# Altium schematic symbol library BIB SCH GERAL.SchLib: 587 symbols (part 2 of 4)
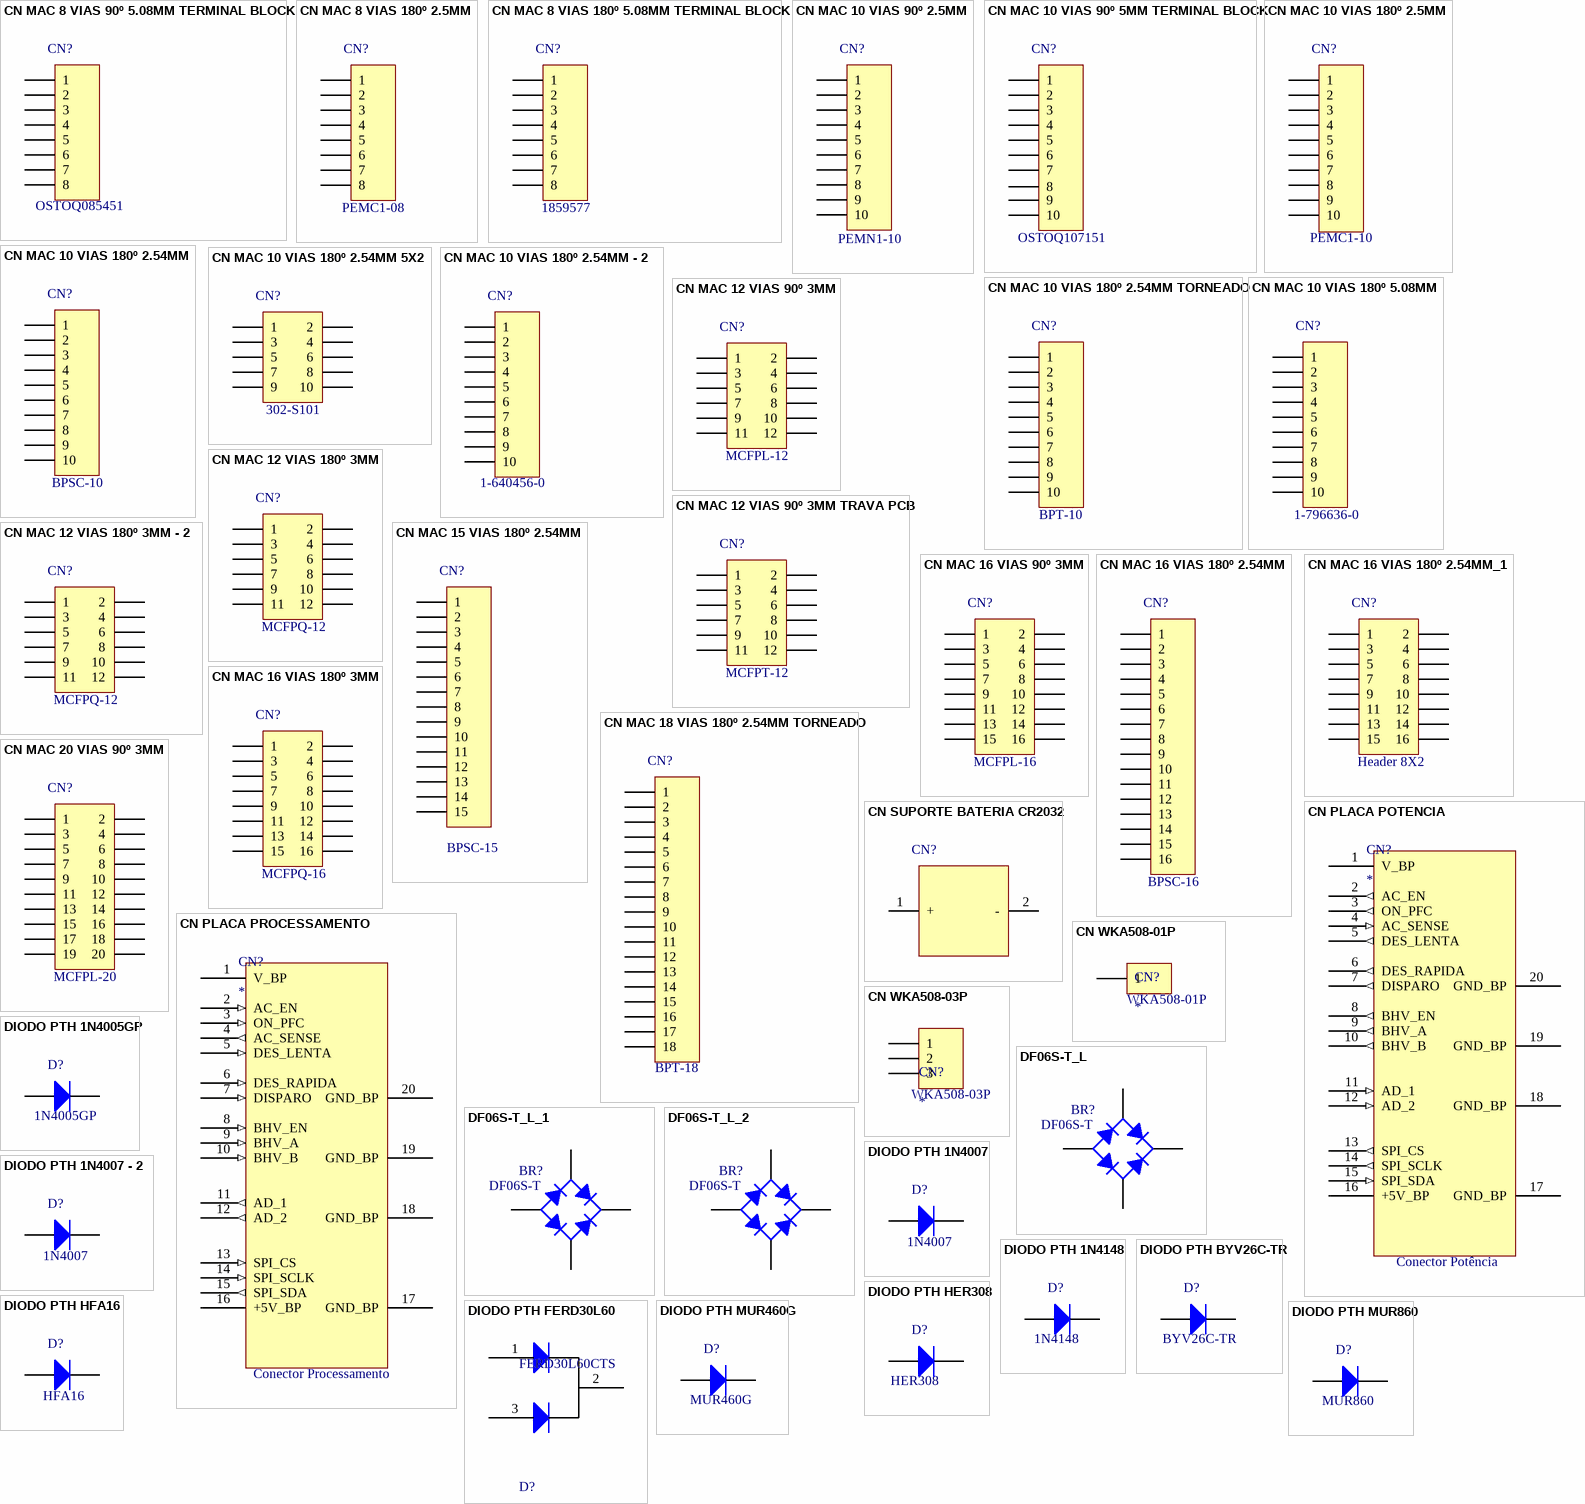
[diagram p16: symbols CN MAC 8 VIAS 90º 5.08MM TERMINAL BLOCK to DIODO PTH MUR860]

## CN MAC 10 VIAS 180º 2.5MM
designator CN?  Manufacturer Part Number: PEMC1-10  (hidden comment: CN MAC 10 VIAS 180º 2.5MM)
Manufacturer: METALTEX; COD. CRISTOFOLI: EMP.00391; List: Conector placa-cabo 2,50mm  180° 10P/PEMC1-10/METALTEX
pins: 1, 2, 3, 4, 5, 6, 7, 8, 9, 10

## CN MAC 10 VIAS 180º 2.54MM
designator CN?  Manufacturer Part Number: BPSC-10  (hidden comment: CN MAC 10 VIAS 180º 2.54MM)
Manufacturer: METALTEX; COD. CRISTOFOLI: EMP.00257; List: Barra de pinos Macho 180° / BPSC-10 / metaltex
pins: 1, 2, 3, 4, 5, 6, 7, 8, 9, 10

## CN MAC 10 VIAS 180º 2.54MM 5X2
designator CN?  Manufacturer Part Number: 302-S101  (hidden comment: CN MAC 10 VIAS 180º 2.54MM 5X2)
Manufacturer: On Shore Technology Inc; COD. CRISTOFOLI: EMP.00342; List: CONN HEADER VERT 10POS GOLD/302-S101/On Shore Technology Inc
pins: 1, 2, 3, 4, 5, 6, 7, 8, 9, 10

## CN MAC 10 VIAS 180º 2.54MM - 2
designator CN?  Manufacturer Part Number: 1-640456-0  (hidden comment: CN MAC 10 VIAS 180º 2.54MM - 2)
Manufacturer: TE Connectivity; COD. CRISTOFOLI: EMP.00334; List: CONN HEADER VERT 10POS .100 TIN/1-640456-0/TE Connectivity
footprint 1-640456-0 (Footprint not found)
pins: 1, 2, 3, 4, 5, 6, 7, 8, 9, 10

## CN MAC 10 VIAS 180º 2.54MM TORNEADO
designator CN?  Manufacturer Part Number: BPT-10  (hidden comment: CN MAC 10 VIAS 180º 2.54MM TORNEADO)
Manufacturer: METALTEX; COD. CRISTOFOLI: EMP.00188; List: Barra de pinos torneados Macho / BPT-10 / metaltex
pins: 1, 2, 3, 4, 5, 6, 7, 8, 9, 10

## CN MAC 10 VIAS 180º 5.08MM
designator CN?  Manufacturer Part Number: 1-796636-0  (hidden comment: CN MAC 10 VIAS 180º 5.08MM)
Manufacturer: TE Connectivity; COD. CRISTOFOLI: EMP.00339; List: TERM BLOCK HDR 10POS VERT 5.08MM/1-796636-0/TE Connectivity
pins: 1, 2, 3, 4, 5, 6, 7, 8, 9, 10

## CN MAC 12 VIAS 90º 3MM
designator CN?  Manufacturer Part Number: MCFPL-12  (hidden comment: CN MAC 12 VIAS 90º 3MM)
Manufacturer: METALTEX; COD. CRISTOFOLI: EMP.00184; List: Conector modular subminiatura 12P 90°/MCFPL-12/Metaltex
pins: 1, 2, 3, 4, 5, 6, 7, 8, 9, 10, 11, 12

## CN MAC 12 VIAS 90º 3MM TRAVA PCB
designator CN?  Manufacturer Part Number: MCFPT-12  (hidden comment: CN MAC 12 VIAS 90º 3MM TRAVA PCB)
Manufacturer: METALTEX; COD. CRISTOFOLI: EMP.00383; List: Conector PCB CABO 90° 12P/MCFPT-12/Metaltex
pins: 1, 2, 3, 4, 5, 6, 7, 8, 9, 10, 11, 12

## CN MAC 12 VIAS 180º 3MM
designator CN?  Manufacturer Part Number: MCFPQ-12  (hidden comment: CN MAC 12 VIAS 180º 3MM)
Manufacturer: METALTEX; COD. CRISTOFOLI: EMP.00261; List: Conector modular subminiatura 12P 180°/MCFPQ-12/Metaltex
pins: 1, 2, 3, 4, 5, 6, 7, 8, 9, 10, 11, 12

## CN MAC 12 VIAS 180º 3MM - 2
designator CN?  Manufacturer Part Number: MCFPQ-12  (hidden comment: CN MAC 12 VIAS 180º 3MM - 2)
Manufacturer: METALTEX; COD. CRISTOFOLI: EMP.00335; List: Conector PCB CABO 180° 12P/MCFPQ-12/Metaltex
pins: 1, 2, 3, 4, 5, 6, 7, 8, 9, 10, 11, 12

## CN MAC 15 VIAS 180º 2.54MM
designator CN?  Manufacturer Part Number: BPSC-15  (hidden comment: CN MAC 15 VIAS 180º 2.54MM)
Manufacturer: METALTEX; COD. CRISTOFOLI: EMP.00000; List: Barra de pinos Macho 180° / BPSC-15 / metaltex
pins: 1, 2, 3, 4, 5, 6, 7, 8, 9, 10, 11, 12, 13, 14, 15

## CN MAC 16 VIAS 90º 3MM
designator CN?  Manufacturer Part Number: MCFPL-16  (hidden comment: CN MAC 16 VIAS 90º 3MM)
Manufacturer: METALTEX; COD. CRISTOFOLI: EMP.00140; List: Conector modular subminiatura 3mm, 16 vias - Montagem em PCI 90º/MCFPL-16/Metaltex
pins: 1, 2, 3, 4, 5, 6, 7, 8, 9, 10, 11, 12, 13, 14, 15, 16

## CN MAC 16 VIAS 180º 2.54MM
designator CN?  Manufacturer Part Number: BPSC-16  (hidden comment: CN MAC 16 VIAS 180º 2.54MM)
Manufacturer: METALTEX; COD. CRISTOFOLI: EMP.00307; List: Barra de pinos Macho 180° / BPSC-16 / metaltex
pins: 1, 2, 3, 4, 5, 6, 7, 8, 9, 10, 11, 12, 13, 14, 15, 16

## CN MAC 16 VIAS 180º 2.54MM_1
designator CN?  Manufacturer Part Number: Header 8X2  (hidden comment: CN MAC 16 VIAS 180º 2.54MM_1)
Manufacturer: METALTEX; COD. CRISTOFOLI: EMP.50150; List: CN MAC 16 VIAS 180º 2.54MM_1
footprint BPDC-16 (Connector; Header; 8x2 Position)
pins: 1, 2, 3, 4, 5, 6, 7, 8, 9, 10, 11, 12, 13, 14, 15, 16

## CN MAC 16 VIAS 180º 3MM
designator CN?  Manufacturer Part Number: MCFPQ-16  (hidden comment: CN MAC 16 VIAS 180º 3MM)
Manufacturer: METALTEX; COD. CRISTOFOLI: EMP.00120; List: Conector modular subminiatura 180° 16P/MCFPQ-16/METALTEX
pins: 1, 2, 3, 4, 5, 6, 7, 8, 9, 10, 11, 12, 13, 14, 15, 16

## CN MAC 18 VIAS 180º 2.54MM TORNEADO
designator CN?  Manufacturer Part Number: BPT-18  (hidden comment: CN MAC 18 VIAS 180º 2.54MM TORNEADO)
Manufacturer: METALTEX; COD. CRISTOFOLI: EMP.00045; List: Barra de pinos torneados Macho / BPT-18 / metaltex
pins: 1, 2, 3, 4, 5, 6, 7, 8, 9, 10, 11, 12, 13, 14, 15, 16, 17, 18

## CN MAC 20 VIAS 90º 3MM
designator CN?  Manufacturer Part Number: MCFPL-20  (hidden comment: CN MAC 20 VIAS 90º 3MM)
Manufacturer: METALTEX; COD. CRISTOFOLI: EMP.00260; List: Conector Modular 90° 20P/MCFPL-20/Metaltex
pins: 1, 2, 3, 4, 5, 6, 7, 8, 9, 10, 11, 12, 13, 14, 15, 16, 17, 18, 19, 20

## CN PLACA POTENCIA
designator CN?
footprint CONN BOOSTER POTENCIA
pins: 1 V_BP (power), 2 AC_EN (out), 3 ON_PFC (out), 4 AC_SENSE (in), 5 DES_LENTA (out), 6 DES_RAPIDA (out), 7 DISPARO (out), 8 BHV_EN (out), 9 BHV_A (out), 10 BHV_B (out), 11 AD_1 (in), 12 AD_2 (in), 13 SPI_CS (out), 14 SPI_SCLK (out), 15 SPI_SDA (in), 16 +5V_BP (power), 17 GND_BP (power), 18 GND_BP (power), 19 GND_BP (power), 20 GND_BP (power)
text: Conector Potência

## CN PLACA PROCESSAMENTO
designator CN?
footprint CONN BOOSTER PROCESSAMENTO
pins: 1 V_BP (power), 2 AC_EN (in), 3 ON_PFC (in), 4 AC_SENSE (out), 5 DES_LENTA (in), 6 DES_RAPIDA (in), 7 DISPARO (in), 8 BHV_EN (in), 9 BHV_A (in), 10 BHV_B (in), 11 AD_1 (out), 12 AD_2 (out), 13 SPI_CS (in), 14 SPI_SCLK (in), 15 SPI_SDA (out), 16 +5V_BP (power), 17 GND_BP (power), 18 GND_BP (power), 19 GND_BP (power), 20 GND_BP (power)
text: Conector Processamento

## CN SUPORTE BATERIA CR2032
designator CN?  (value not drawn)
COD. CRISTOFOLI: EMP.00136; List: HOLDER BATT COIN COMPACT 20MM/1066/Keystone
pins: 1 +, 2 -

## CN WKA508-01P
designator CN?
PCB Terminal Blocks, Spring Clamp Connection.
pins: 1
text: WKA508-01P

## CN WKA508-03P
designator CN?
PCB Terminal Blocks, Spring Clamp Connection.
pins: 1, 2, 3
text: WKA508-03P

## DF06S-T_L
designator BR?, comment DF06S-T
RECT BRIDGE GPP 1A 600V DF06S-T; Manufacturer: Diodes Incorporated; Diode Type: Single Phase; COD. CRISTOFOLI: EMP.00039; list: RECT BRIDGE GPP 1A 600V DFS / DF06S-T / Diodes Inc; Supplier 1: Digi-Key; Manufacturer Part Number: DF06S-T; RoHS: RoHS Compliant; Category: Discrete Semiconductor Products; Stock 1: 74700; Pricing 1: 1=0.6, 10=0.467, 25=0.3944, 100=0.3213, 250=0.26612, 500=0.21984 (USD); Packaging: Cut Tape (CT); Voltage - Peak Reverse (Max): 600V; Current - DC Forward (If) (Max): 1A; Mounting Type: Surface Mount; Package / Case: 4-SMD, Gull Wing; Supplier Device Package: DF-S; ComponentLink1URL: http://www.diodes.com/datasheets/ds17001.pdf; ComponentLink1Description: http://www.diodes.com/datasheets/ds17001.pdf; Supplier Part Number 1: DF06S-TDICT-ND
footprint DFS1A1000VL (SOT143, 4-Leads, Body 8,10x10,15mm, Pitch 5,20mm, IPC Low Density)
footprint DF06
pins: 1 k, 2 C, 3 A, 4 C

## DF06S-T_L_1
designator BR?, comment DF06S-T
RECT BRIDGE GPP 1A 600V DF06S-T; Manufacturer: Diodes Incorporated; Diode Type: Single Phase; COD. CRISTOFOLI: EMP.00039; list: RECT BRIDGE GPP 1A 600V DFS / DF06S-T / Diodes Inc; Supplier 1: Digi-Key; Manufacturer Part Number: DF06S-T; RoHS: RoHS Compliant; Category: Discrete Semiconductor Products; Stock 1: 74700; Pricing 1: 1=0.6, 10=0.467, 25=0.3944, 100=0.3213, 250=0.26612, 500=0.21984 (USD); Packaging: Cut Tape (CT); Voltage - Peak Reverse (Max): 600V; Current - DC Forward (If) (Max): 1A; Mounting Type: Surface Mount; Package / Case: 4-SMD, Gull Wing; Supplier Device Package: DF-S; ComponentLink1URL: http://www.diodes.com/datasheets/ds17001.pdf; ComponentLink1Description: http://www.diodes.com/datasheets/ds17001.pdf; Supplier Part Number 1: DF06S-TDICT-ND
footprint DFS1A1000VL (SOT143, 4-Leads, Body 8,10x10,15mm, Pitch 5,20mm, IPC Low Density)
footprint DF06
pins: 1 k, 2 C, 3 A, 4 C

## DF06S-T_L_2
designator BR?, comment DF06S-T
RECT BRIDGE GPP 1A 600V DF06S-T; Manufacturer: Diodes Incorporated; Diode Type: Single Phase; COD. CRISTOFOLI: EMP.00039; list: RECT BRIDGE GPP 1A 600V DFS / DF06S-T / Diodes Inc; Supplier 1: Digi-Key; Manufacturer Part Number: DF06S-T; RoHS: RoHS Compliant; Category: Discrete Semiconductor Products; Stock 1: 74700; Pricing 1: 1=0.6, 10=0.467, 25=0.3944, 100=0.3213, 250=0.26612, 500=0.21984 (USD); Packaging: Cut Tape (CT); Voltage - Peak Reverse (Max): 600V; Current - DC Forward (If) (Max): 1A; Mounting Type: Surface Mount; Package / Case: 4-SMD, Gull Wing; Supplier Device Package: DF-S; ComponentLink1URL: http://www.diodes.com/datasheets/ds17001.pdf; ComponentLink1Description: http://www.diodes.com/datasheets/ds17001.pdf; Supplier Part Number 1: DF06S-TDICT-ND
footprint DFS1A1000VL (SOT143, 4-Leads, Body 8,10x10,15mm, Pitch 5,20mm, IPC Low Density)
footprint DF06
pins: 1 k, 2 C, 3 A, 4 C

## DIODO PTH 1N4005GP
designator D?  value 1N4005GP  (hidden comment: DIODO PTH 1N4005GP)
COD. CRISTOFOLI: EMP.00399; List: DIODE GEN PURP 600V 1A DO204AL/1N4005GP-E3/54/Vishay
pins: 1 A, 2 K

## DIODO PTH 1N4007
designator D?  value 1N4007  (hidden comment: DIODO PTH 1N4007)
COD. CRISTOFOLI: EMP.00031; List: DIODE GEN PURPOSE 1000V 1A DO41 - 1N4007-T
pins: 1 K, 2 A

## DIODO PTH 1N4007 - 2
designator D?  value 1N4007  (hidden comment: DIODO PTH 1N4007 - 2)
COD. CRISTOFOLI: EMP.00271; List: DIODE GEN PURP 1KV 1A DO41/UF4007-TP/Generic
pins: 1 K, 2 A

## DIODO PTH 1N4148
designator D?  value 1N4148  (hidden comment: DIODO PTH 1N4148)
COD. CRISTOFOLI: EMP.00286; List: DIODE GEN PURP 100V 200MA DO35/1N4148TR/Fairchild Semiconductor
pins: 1 A, 2 K

## DIODO PTH BYV26C-TR
designator D?  value BYV26C-TR  (hidden comment: DIODO PTH BYV26C-TR)
Manufacturer: Vishay; COD. CRISTOFOLI: EMP.00400; List: DIODE AVALANCHE 600V 1A SOD57/BYV26C-TR/Vishay; Manufacturer Part Number: BYV26C-TR
pins: 1 A, 2 K

## DIODO PTH FERD30L60
designator D?, comment FERD30L60CTS
DIODE ARRAY 60V 15A TO220AB; Manufacturer: STMicroelectronics; Standoff Height: 3.5mm; Max Surge Forward Current: 250A; Peak Reverse Current: 820uA; Max Junction Temp: +150°C; Device Class L2: Diodes; Temperature: to +150°C; Forward Current: 15A; Device Class L1: Discrete Semiconductors; Temperature Range High: +150°C; Lead Free: Yes; Category: Diode; Digikey Description: DIODE ARRAY 60V 15A TO220AB; ComponentLink2Description: Datasheet; Device Class L3: Rectifier Diodes; Octopart: https://octopart.com/ferd30l60cts-stmicroelectronics-87671181; ComponentLink2URL: https://www.st.com/resource/en/datasheet/ferd30l60c.pdf; Automotive: No; Package: TO-220AB; Height: 19.68mm; Manufacturer Part Number: FERD30L60CTS; Max Repetitive Reverse Voltage: 60V; RoHS: TRUE
footprint TO-220AB
pins: 1 A1, 2 K, 3 A2

## DIODO PTH HER308
designator D?  value HER308  (hidden comment: DIODO PTH HER308)
Manufacturer: Vishay; Manufacturer Part Number: BYV26C-TR; COD. CRISTOFOLI: EMP.50155; List: DIODO PTH HER308
footprint DIOAD1990W125L900D530
pins: 1 A, 2 K

## DIODO PTH HFA16
designator D?  value HFA16  (hidden comment: DIODO PTH HFA16)
Manufacturer: VISHAY; Manufacturer Part Number: UF4007-E3/54; COD. CRISTOFOLI: EMP.50032; Voltage: 1000; List: DIODO PTH HFA16TB120 TO220AC
footprint TO-220AC
pins: 1 K, 2 A

## DIODO PTH MUR460G
designator D?  value MUR460G  (hidden comment: DIODO PTH MUR460G)
COD. CRISTOFOLI: EMP.00374; List: DIODE GEN PURP 600V 4A DO201AD/MUR460G/ON Semiconductor/critico
pins: 1 A, 2 K

## DIODO PTH MUR860
designator D?  value MUR860  (hidden comment: DIODO PTH MUR860)
COD. CRISTOFOLI: EMP.00378; List: Diode Standard 600V 8A Through Hole TO-220AC/ MUR860 /ON Semiconductor/  DIODES INCORPORATED - DSR8A600
pins: 1 A, 2 K

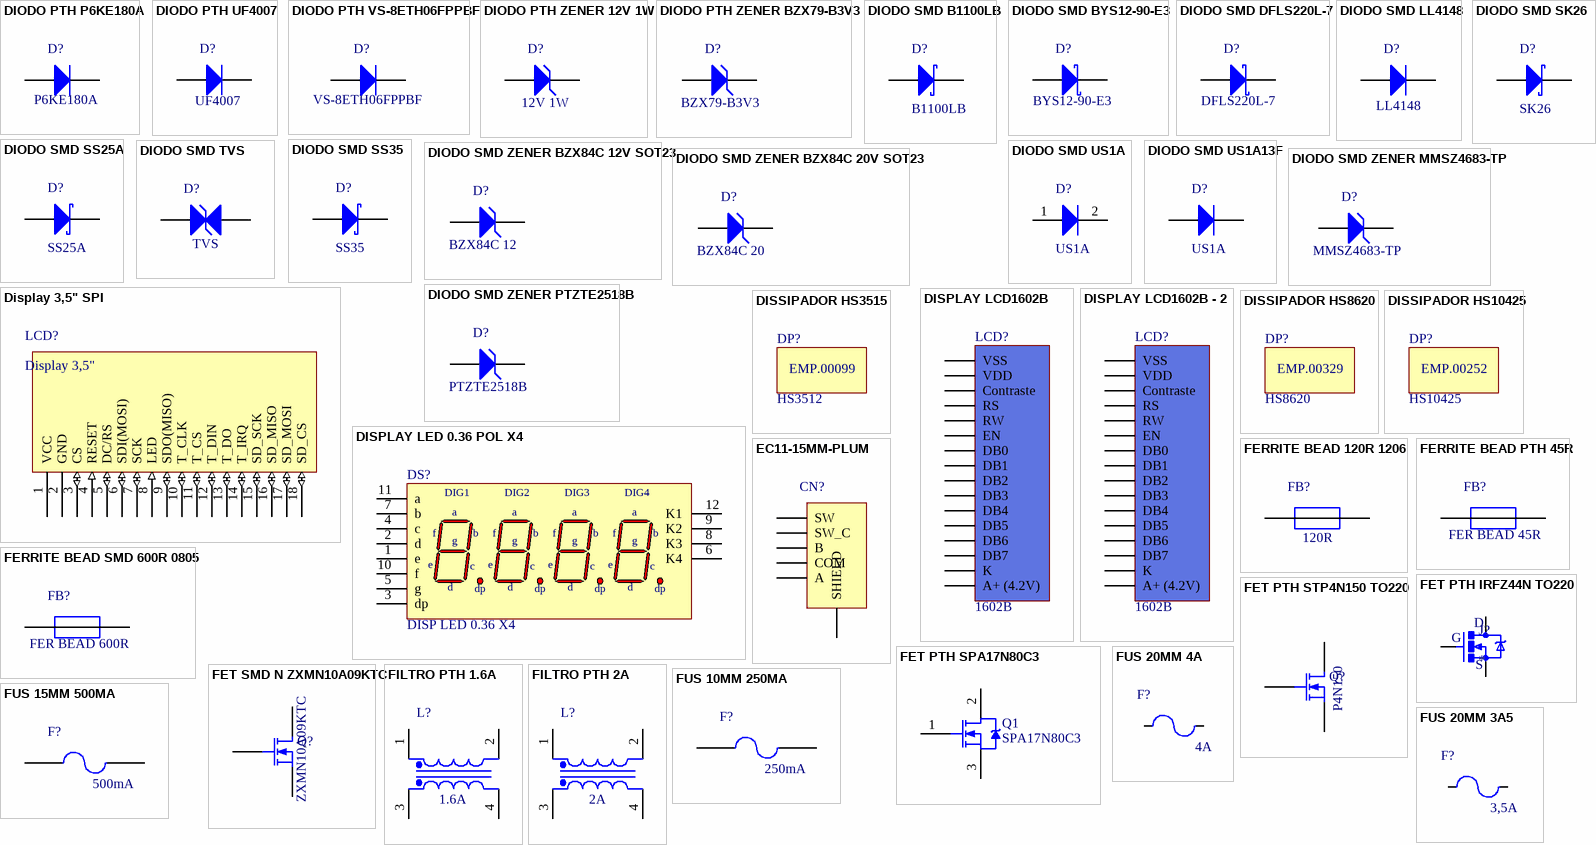
[diagram p5: symbols DIODO PTH P6KE180A to FUS 20MM 4A]

## DIODO PTH P6KE180A
designator D?  value P6KE180A  (hidden comment: DIODO PTH P6KE180A)
Manufacturer: VISHAY; Manufacturer Part Number: P6KE180A-E3; COD. CRISTOFOLI: EMP.00101; List: DIODE TVS 180V 600W 5%/P6KE180A/Littelfuse Inc/VISHAY GENERAL SEMICONDUCTOR/P6KE180A-E3/54
pins: 1 A, 2 K

## DIODO PTH UF4007
designator D?  value UF4007  (hidden comment: DIODO PTH UF4007)
Manufacturer: VISHAY; Manufacturer Part Number: UF4007-E3/54; COD. CRISTOFOLI: EMP.00271; Voltage: 1000; List: DIODE GEN PURP 1KV 1A DO41/UF4007-TP/Generic
pins: 1 K, 2 A

## DIODO PTH VS-8ETH06FPPBF
designator D?  value VS-8ETH06FPPBF  (hidden comment: DIODO PTH VS-8ETH06FPPBF)
Manufacturer: VISHAY; COD. CRISTOFOLI: EMP.00115; List: DIODE HYPERFAST 600V 8A TO220FP/S-8ETH06FPPBF/VISHAY; Manufacturer Part Number: VS-8ETH06FPPBF
pins: 1 A, 2 K

## DIODO PTH ZENER 12V 1W
designator D?  value 12V 1W  (hidden comment: DIODO PTH ZENER 12V 1W)
COD. CRISTOFOLI: EMP.50162; List: DIODO PTH ZENER 12V 1W
footprint Model Name (Model Description)
footprint Model Name (Model Description)
footprint Model Name (Model Description)
footprint Model Name (Model Description)
footprint DO41
pins: 1 A, 2 K

## DIODO PTH ZENER BZX79-B3V3
designator D?  value BZX79-B3V3  (hidden comment: DIODO PTH ZENER BZX79-B3V3)
COD. CRISTOFOLI: EMP.00302; List: DIODE ZENER 3.3V 400MW ALF2/BZX79-B3V3,133/NXP Semiconductors
pins: 1 A, 2 K

## DIODO SMD B1100LB
designator D?  Manufacturer Part Number: B1100LB  (hidden comment: DIODO SMD B1100LB)
Manufacturer: Vishay; COD. CRISTOFOLI: EMP.00455; Voltage: 100V; List: Schottky Diodes & Rectifiers 1.0 Amp 100 Volts
pins: 1 K, 2 A

## DIODO SMD BYS12-90-E3
designator D?  value BYS12-90-E3  (hidden comment: DIODO SMD BYS12-90-E3)
COD. CRISTOFOLI: EMP.00164; List: DIODE SCHOTTKY 90V 1.5A DO214AC/BYS12-90-E3/TR/Vishay; Manufacturer Part Number: BYS12-90-E3
pins: 1 A, 2 K

## DIODO SMD DFLS220L-7
designator D?  value DFLS220L-7  (hidden comment: DIODO SMD DFLS220L-7)
COD. CRISTOFOLI: EMP.00244; List: DIODE SCHOTTKY 20V 2A POWERDI123/DFLS220L-7/Diodes Incorporated; Manufacturer Part Number: DFLS220L-7
pins: 1 A, 2 K

## DIODO SMD LL4148
designator D?, comment value LL4148  (hidden comment: DIODO LL4148 SOD80)
Manufacturer: ON Semiconductor; COD. CRISTOFOLI: EMP.00429; Voltage: 100V; List: DIODO SMD LL4148 100V 200MA SOD80; Manufacturer Part Number: LL4148
pins: 1 A, 2 K

## DIODO SMD SK26
designator D?  Manufacturer Part Number: SK26  (hidden comment: DIODO SMD SK26)
COD. CRISTOFOLI: EMP.00000; Voltage: 60V; List: Schottky Diodes & Rectifiers 2.0 Amp 60 Volts
pins: 1 K, 2 A

## DIODO SMD SS25A
designator D?  Manufacturer Part Number: SS25A  (hidden comment: DIODO SMD SS25A)
Manufacturer: Vishay; COD. CRISTOFOLI: EMP.00454; Voltage: 50V; List: Schottky Diodes & Rectifiers 2.0 Amp 50 Volts
pins: 1 K, 2 A

## DIODO SMD SS35
designator D?  Manufacturer Part Number: SS35  (hidden comment: DIODO SMD SS35)
Manufacturer: ON Semiconductor; COD. CRISTOFOLI: EMP.00453; List: Schottky Diodes & Rectifiers 3a 50V
pins: 1 K, 2 A

## DIODO SMD TVS
designator D?  value TVS  (hidden comment: DIODO SMD TVS)
COD. CRISTOFOLI: EMP.50028; List: DIODO SMD ZENER BZX84C 12V SOT23
footprint DO214AA
pins: 1 A, 3 K

## DIODO SMD US1A
designator D?  Manufacturer Part Number: US1A  (hidden comment: DIODO SMD US1A)
COD. CRISTOFOLI: EMP.00050; List: DIODE ULTRA FAST 50V 1A DO214AC / US1A/ VISHAY/DIODES
footprint DO214AC SMA
pins: 1 A, 2 K

## DIODO SMD US1A13F
designator D?, comment Manufacturer Part Number: US1A  (hidden comment: DIODO SMD US1A)
COD. CRISTOFOLI: EMP.00050; List: DIODE ULTRA FAST 50V 1A DO214AC / US1A/ VISHAY/DIODES
pins: 1 K, 2 A

## DIODO SMD ZENER BZX84C 12V SOT23
designator D?  value BZX84C 12  (hidden comment: DIODO SMD ZENER BZX84C 12V SOT23)
COD. CRISTOFOLI: EMP.50028; List: DIODO SMD ZENER BZX84C 12V SOT23
footprint SOT23H
pins: 1 A, 3 K

## DIODO SMD ZENER BZX84C 20V SOT23
designator D?  value BZX84C 20  (hidden comment: DIODO SMD ZENER BZX84C 20V SOT23)
COD. CRISTOFOLI: EMP.50029; List: DIODO SMD ZENER BZX84C 20V SOT23
footprint SOT23H
pins: 1 A, 3 K

## DIODO SMD ZENER MMSZ4683-TP
designator D?  value MMSZ4683-TP  (hidden comment: DIODO SMD ZENER MMSZ4683-TP)
COD. CRISTOFOLI: EMP.00276; List: DIODE ZENER 3V 500MW SOD123/MMSZ4683-TP/Micro Commercial Co
pins: 1 A, 2 K

## DIODO SMD ZENER PTZTE2518B
designator D?  value PTZTE2518B  (hidden comment: DIODO SMD ZENER PTZTE2518B)
COD. CRISTOFOLI: EMP.00274; List: DIODE ZENER 19V 1W PMDS DO214 /PTZTE2518B/Rohm Semiconductor
pins: 1 A, 2 K

## Display 3,5" SPI
designator LCD?, comment Display 3,5"
Display TFT SPI 480X320; COD. CRISTOFOLI: EMP.00435; List: Display TFT 3.5" SPI 480X320 MSP3520; Documentações: http://www.lcdwiki.com/3.5inch_SPI_Module_ILI9488_SKU:MSP3520; Datasheet: http://www.lcdwiki.com/res/MSP3520/3.5inch_SPI_Module_MSP3520_User_Manual_EN.pdf
footprint Display_3.5"_SPI_480X320
pins: 1 VCC (power), 2 GND (power), 3 CS (io), 4 RESET (in), 5 DC/RS (io), 6 SDI(MOSI) (io), 7 SCK (io), 8 LED (in), 9 SDO(MISO) (io), 10 T_CLK (io), 11 T_CS (io), 12 T_DIN (io), 13 T_DO (io), 14 T_IRQ (io), 15 SD_SCK (io), 16 SD_MISO (io), 17 SD_MOSI (io), 18 SD_CS (io)

## DISPLAY LCD1602B
designator LCD?, comment 1602B
Display de Cristal Líquido de 16 colunas e 2 linhas com backlight e fundo azul.; List: LCD  16X2 ,back,azul/ITM1602B/Intech; COD. CRISTOFOLI: EMP.00144
footprint LCD1602B
pins: 1 A+ (4.2V), 2 K, 3 VSS, 4 VDD, 5 Contraste, 6 RS, 7 RW, 8 EN, 9 DB0, 10 DB1, 11 DB2, 12 DB3, 13 DB4, 14 DB5, 15 DB6, 16 DB7

## DISPLAY LCD1602B - 2
designator LCD?, comment 1602B
Display de Cristal Líquido de 16 colunas e 2 linhas com backlight e fundo azul.; List: DISPLAY LCD 16X2 C/ BACKLIGHT AZUL /ITM-1602BBTBL /Intech//AXBC16AGQWH-MM/APEX(Maru_M); COD. CRISTOFOLI: EMP.00169
footprint LCD1602B
pins: 1 A+ (4.2V), 2 K, 3 VSS, 4 VDD, 5 Contraste, 6 RS, 7 RW, 8 EN, 9 DB0, 10 DB1, 11 DB2, 12 DB3, 13 DB4, 14 DB5, 15 DB6, 16 DB7

## DISPLAY LED 0.36 POL X4
designator DS?, comment DISP LED 0.36 X4
DISPLAY LED 0.36 POL 7SEG X4 VERMELHO; Manufacturer: XLITX Technology; Manufacturer Part Number: 3641AS; list: DISPLAY LED 0.36 POL 7SEG X4 VERMELHO CATODO COMUM; Colour: RED; DATASHEET: http://www.xlitx.com/datasheet/3641AS.pdf; ComponentLink1Description: Manufacturer Link; ComponentLink1URL: http://www.agilent.com/
footprint Display_7segmetos_036-4
pins: 1 e "Anode", 2 d "Anode", 3 dp "Anode", 4 c "Anode", 5 g "Anode", 6 K4 "Cathode", 7 b "Anode", 8 K3 "Cathode", 9 K2 "Cathode", 10 f "Anode", 11 a "Anode", 12 K1 "Cathode"
text: DIG1; DIG2; DIG3; DIG4

## DISSIPADOR HS3515
designator DP?, comment HS3512  COD. CRISTOFOLI: EMP.00099
35mm 12mm 8,35°C/W; Manufacturer: Hs Dissipadores; list: Dissipador de Calor 8,35°C/W Strued/HS3512/Hs Dissipadores; Manufacturer Part Number: HS3512
footprint HS3512

## DISSIPADOR HS8620
designator DP?, comment HS8620  COD. CRISTOFOLI: EMP.00329
8,35°C/W; Manufacturer: Hs Dissipadores; Manufacturer Part Number: HS3512; list: Diss. Resistência térmica: 3,36 ºc/w/4/hs8620/HS dissipadores
footprint HS3512

## DISSIPADOR HS10425
designator DP?, comment HS10425  COD. CRISTOFOLI: EMP.00252
2,14 °C/W; Manufacturer: Hs Dissipadores; list: Dissipador HS 10425  2,14°C/W/4 /hs10425/hs Dissipadores; Manufacturer Part Number: HS10425
footprint HS3512

## EC11-15MM-PLUM
designator CN?  (value not drawn)
Manufacturer: METALTEX; COD. CRISTOFOLI: EMP.50148; List: EC11-15MM-PLUM
footprint EC11-15mm
pins: 1 SW, 2 SW_C, 3 B, 4 COM, 5 A, 6 SHIELD

## FERRITE BEAD 120R 1206
designator FB?, comment value 120R  (hidden comment: FERRITE BEAD SMD 120R 1206)
Manufacturer Part Number: MMZ2012S151AT000; COD. CRISTOFOLI: EMP.00000; List: FERRITE BEAD 120R 1206 / MMZ2012S151AT000
pins: 1 OSC1, 2 OSC2

## FERRITE BEAD PTH 45R
designator FB?  value FER BEAD 45R  (hidden comment: FERRITE BEAD PTH 45R)
COD. CRISTOFOLI: EMP.00308; List: FERRITE BEAD 45 OHMS AXIAL LEAD/FBA04HA450VB-00/Taiyo Yuden
pins: 1 OSC1, 2 OSC2

## FERRITE BEAD SMD 600R 0805
designator FB?  value FER BEAD 600R  (hidden comment: FERRITE BEAD SMD 600R 0805)
COD. CRISTOFOLI: EMP.00336; List: FERRITE BEAD 600 OHM 0805/HZ0805E601R-10/Laird
pins: 1 OSC1, 2 OSC2

## FET PTH IRFZ44N TO220
designator J?
COD. CRISTOFOLI: EMP.50106; List: FET PTH IRFZ44N TO220
footprint TO220
pins: 1 G, 2 D, 3 S

## FET PTH SPA17N80C3
designator Q1, comment SPA17N80C3
N-Channel CoolMOS Power-Transistor, 800 V VDS, 17 A ID, -55 to 150 degC, PG-TO220-3-31, Tube, Green; Manufacturer: Infineon; Green: TRUE; VGS(th) (max): 3.9Â V; Rth: 3.6Â K/W; RthJA (max): 80Â K/W; ID (max): 17Â A; RDS (on) (max): 290Â mOhm; VGS(th) (min): 2.1Â V; VDS (max): 800Â V; Polarity: N; QG: 91Â nC; Ptot (max): 42Â W; IDpuls (max): 51Â A; Packing: Tube; PackageDescription: 3-Pin Plastic (Green) Transistor Single Outline Package, 10.5 x 9.68 mm Body, 2.54 mm Pitch; PackageReference: PG-TO220-3-31; ComponentLink3URL: http://www.infineon.com/dgdl/IPA093N06N3_Rev2+0.pdf?folderId=db3a30431441fb5d01148ca9f1be0e77&fileId=db3a3043284aacd8012882bf84115438; PartNumber: SPA17N80C3; RthJC (max): 3.6Â K/W; ComponentLink2URL: http://www.infineon.com/dgdl/SPP_A17N80C3.Rev.2.7.pdf?folderId=db3a3043163797a6011638491238009b&fileId=db3a3043163797a60116385ea62e0101; PackageVersion: Jan-07; Halogen-free: TRUE; ComponentLink1URL: http://www.infineon.com/; ComponentLink2Description: Datasheet; ComponentLink1Description: Manufacturer URL; ComponentLink3Description: Package Specification; Technology: CoolMOS C3; Mounting Technology: Through Hole; DatasheetVersion: Rev. 2.7
footprint INF-PG-TO220-3-31 (FM, 3-Leads, Body 10.5x4.7mm, Pitch 2.54mm)
pins: 1 GATE, 2 DRAIN, 3 SOURCE

## FET PTH STP4N150 TO220
designator Q?  value P4N150  (hidden comment: FET PTH STP4N150 TO220)
COD. CRISTOFOLI: EMP.50037; List: FET PTH STP4N150 TO220
footprint TO220
pins: 1 G, 2 D, 3 S

## FET SMD N ZXMN10A09KTC
designator Q?, comment ZXMN10A09KTC
MOSFET CANAL N 100V 5A; List: MOSFET N-CH 100V 5A DPAK/ZXMN10A09KTC/Diodes Inc; COD. CRISTOFOLI: EMP.00324; Published: 8-Jun-2000; LatestRevisionDate: 17-Jul-2002; LatestRevisionNote: Re-released for DXP Platform.; PackageReference: E3; Publisher: Altium Limited; PackageDescription: TO, Flat Index; 3 In-Line, Axial Leads; Body Dia. 4.6mm; Lead Dia. 0.5 mm (max); Manufacturer Part Number: ZXMN10A09KTC
pins: 1 G, 2 D, 3 S

## FILTRO PTH 1.6A
designator L?  value 1.6A  (hidden comment: FILTRO PTH 1.6A)
COD. CRISTOFOLI: EMP.00088; List: LINE FILTER 6.0MH 1.6A N SERIES/ ELF18N016/Panasonic
pins: 1 Pri+, 2 Pri-, 3 Sec+, 4 Sec-

## FILTRO PTH 2A
designator L?  value 2A  (hidden comment: FILTRO PTH 2A)
COD. CRISTOFOLI: EMP.00222; List: CHOKE COMPENSATED 6.8MH 2A HORZ/RN122-2-02/SCHAFFNER
pins: 1 Pri+, 2 Pri-, 3 Sec+, 4 Sec-

## FUS 10MM 250MA
designator F?  value 250mA
Manufacturer: Littelfuse Inc.; Manufacturer Part Number: 0876.250MXEP; COD. CRISTOFOLI: EMP.00352; List: FUSE CERAMIC 250MA 250VAC AXIAL/0876.250MXEP/Littelfuse Inc.
pins: 1, 2

## FUS 15MM 500MA
designator F?  value 500mA
Manufacturer: Littelfuse Inc.; Manufacturer Part Number: 0224.500MXP; COD. CRISTOFOLI: EMP.00353; List: FUSE GLASS 500MA 250VAC 125VDC 2AG, 5mm x 15mm (Axial)/0224.500MXP/Littelfuse Inc.
pins: 1, 2

## FUS 20MM 3A5
designator F?  value 3,5A
Manufacturer: METALTEX; Manufacturer Part Number: ZH212-3,5A; COD. CRISTOFOLI: EMP.00084; List: Fusíveis de vidro (ação rápida) 3.15A 20x5mm/ZH212-3.15A/Metaltex

## FUS 20MM 4A
designator F?  value 4A
Manufacturer: Metaltex; Manufacturer Part Number: ZH212-4A; COD. CRISTOFOLI: EMP.00054; List: Fusivel Ação rapida / ZH212-4A / Metaltex

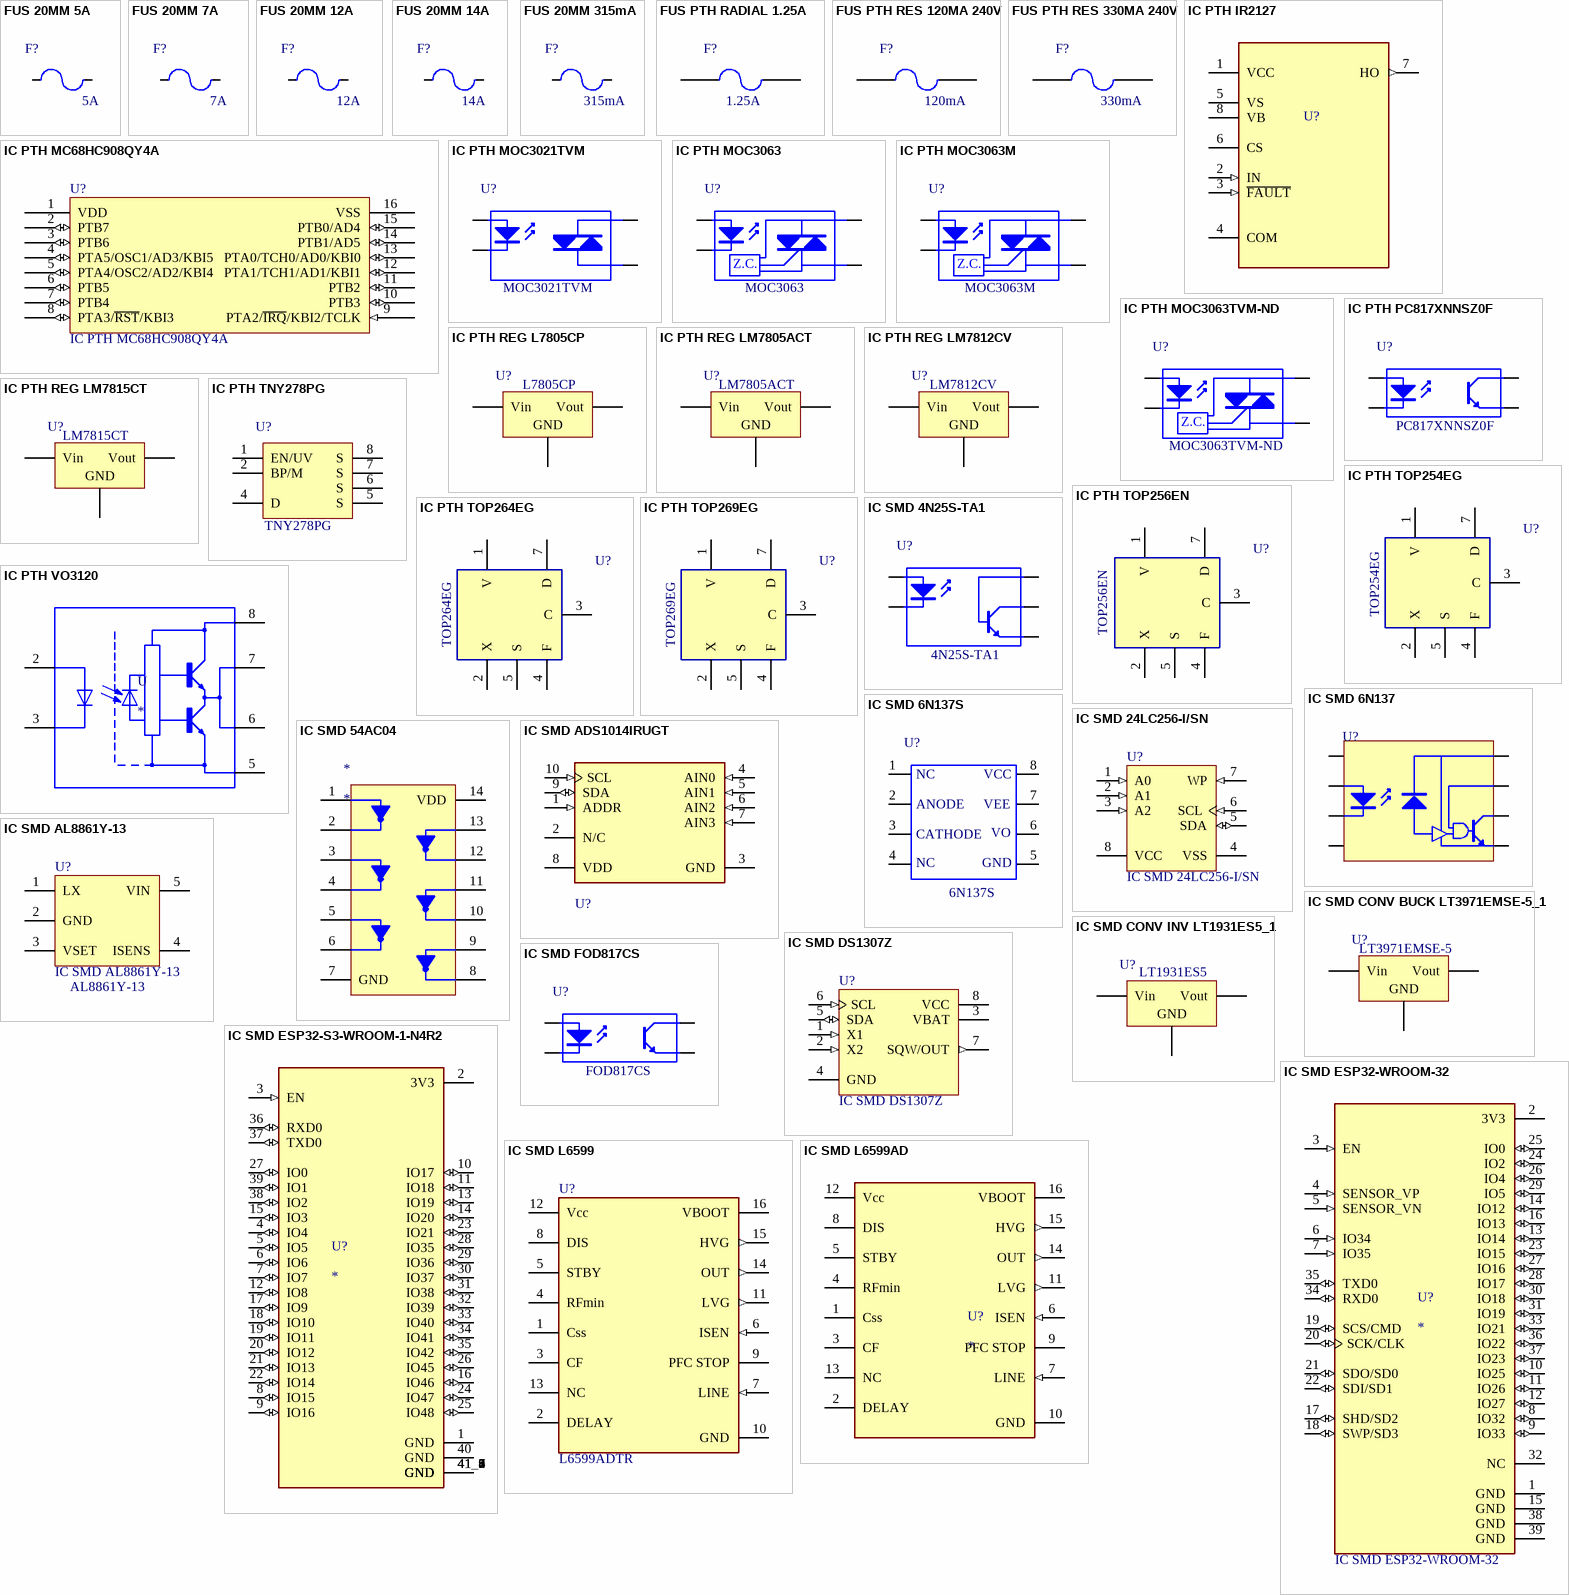
[diagram p6: symbols FUS 20MM 5A to IC SMD L6599AD]

## FUS 20MM 5A
designator F?  value 5A
Manufacturer: METALTEX; Manufacturer Part Number: ZH212-5A; COD. CRISTOFOLI: EMP.00052; List: Fusivel Ação rapida / ZH212-05A / Metaltex

## FUS 20MM 7A
designator F?  value 7A
Manufacturer: Metaltex; Manufacturer Part Number: ZH212-7A; COD. CRISTOFOLI: EMP.00053; List: Fusivel Ação rapida / ZH212-7A / Metaltex

## FUS 20MM 12A
designator F?  value 12A
Manufacturer: METALTEX; Manufacturer Part Number: ZH212-12A; COD. CRISTOFOLI: EMP.00251; List: Fusíveis de vidro 5x20 12A 250V/ZH212-12A/Metaltex

## FUS 20MM 14A
designator F?  value 14A
Manufacturer: Metaltex; Manufacturer Part Number: ZH212-14A/Metaltex; COD. CRISTOFOLI: EMP.00124; List: Fusíveis de vidro 14A (ação rápida) 5x20mm/ZH212-14A/Metaltex

## FUS 20MM 315mA
designator F?  value 315mA  (hidden comment: FUS 20MM 315mA)
FUSIVEL VIDRO 315mA; Manufacturer: METALTEX; Manufacturer Part Number: ZH212-0,315A; COD. CRISTOFOLI: EMP.00027; List: FUSÍVEIS DE VIDRO (AÇÃO RÁPIDA) - ZH212-0,315A

## FUS PTH RADIAL 1.25A
designator F?  value 1.25A
Manufacturer: BEL FUSE; Manufacturer Part Number: RST 1.25 AMMO; COD. CRISTOFOLI: EMP.00437; Voltage: 250V; List: FUSE BRD MNT 1.25A 250VAC RADIAL
pins: 1 FUS, 2 FUS

## FUS PTH RES 120MA 240V
designator F?  value 120mA
Manufacturer: Bourns; Manufacturer Part Number: MF-RM012/240; COD. CRISTOFOLI: EMP.00146; Voltage: 240V; List: PTC Resettable Fuse/MF-RM012/240/Bourns
pins: 1, 2

## FUS PTH RES 330MA 240V
designator F?  value 330mA
Manufacturer: FUZETEC; Manufacturer Part Number: FRV033-240F; COD. CRISTOFOLI: EMP.00232; Voltage: 240V; List: PTC Radial Leaded PTC Resettable Fuse:FRV Series/FRV033-240F/FUZETEC
pins: 1, 2

## IC PTH IR2127
designator U?
footprint DIP254P762X533-8
pins: 1 VCC (power), 2 IN (in), 3 ~{FAULT} (in), 4 COM, 5 VS (power), 6 CS, 7 HO (out), 8 VB (power)

## IC PTH MC68HC908QY4A
designator U?
M68HC08 Microcontrollers; List: IC MCU 8BIT 4KB FLASH 16DIP/MC68HC908QY4A (OBSOLETO)/MC908QY1ACDWE/ Freescale Semiconductor; COD. CRISTOFOLI: EMP.00300
footprint PDIP300-P16
pins: 1 VDD (power), 2 PTB7 (io), 3 PTB6 (io), 4 PTA5/OSC1/AD3/KBI5 (io), 5 PTA4/OSC2/AD2/KBI4 (io), 6 PTB5 (io), 7 PTB4 (io), 8 PTA3/~{RST}/KBI3 (io), 9 PTA2/~{IRQ}/KBI2/TCLK (in), 10 PTB3 (io), 11 PTB2 (io), 12 PTA1/TCH1/AD1/KBI1 (io), 13 PTA0/TCH0/AD0/KBI0 (io), 14 PTB1/AD5 (io), 15 PTB0/AD4 (io), 16 VSS (power)

## IC PTH MOC3021TVM
designator U?  value MOC3021TVM  (hidden comment: IC PTH MOC3021TVM)
OPTOACOPLADOR TRIAC; Manufacturer: Fairchild Semiconductor; COD. CRISTOFOLI: EMP.00375; List: OPTOISOLATOR 4.17KV TRIAC 6DIP/MOC3021TVM/Fairchild Semiconductor; Manufacturer Part Number: MOC3021TVM
pins: 1 A, 2 K, 4 A/K, 6 A/K

## IC PTH MOC3063
designator U?  value MOC3063  (hidden comment: IC PTH MOC3063)
OPTOACOPLADOR TRIAC; Manufacturer: Lite-On Inc; COD. CRISTOFOLI: EMP.00291; List: OPTOISOLATOR 5KV TRIAC 6DIP/MOC3063/Lite-On Inc.; Manufacturer Part Number: MOC3063
pins: 1 A, 2 K, 4 A/K, 6 A/K
text: Z.C.

## IC PTH MOC3063M
designator U?  value MOC3063M  (hidden comment: IC PTH MOC3063M)
OPTOACOPLADOR TRIAC; Manufacturer: FAIRCHILD SEMICONDUCTOR; COD. CRISTOFOLI: EMP.00292; List: Optotriac; 5.3kV; Uout:600V; zero voltage crossing driver/MOC3063M/FAIRCHILD SEMICONDUCTOR; Manufacturer Part Number: MOC3063M
pins: 1 A, 2 K, 4 A/K, 6 A/K
text: Z.C.

## IC PTH MOC3063TVM-ND
designator U?  value MOC3063TVM-ND  (hidden comment: IC PTH MOC3063TVM-ND)
OPTOACOPLADOR TRIAC; Manufacturer: FAIRCHILD SEMICONDUCTOR; COD. CRISTOFOLI: EMP.00362; List: OPTOISOLATOR 4.17KV TRIAC 6DIP dist lead 10.62mm/MOC3063TVM-ND/Fairchild; Manufacturer Part Number: MOC3063TVM-ND
pins: 1 A, 2 K, 4 A/K, 6 A/K
text: Z.C.

## IC PTH PC817XNNSZ0F
designator U?  value PC817XNNSZ0F  (hidden comment: IC PTH PC817XNNSZ0F)
OPTOACOPLADOR; Manufacturer: Sharp Microelectronics; COD. CRISTOFOLI: EMP.00356; List: OPTOISOLATOR 5KV TRANSISTOR 4DIP/PC817XNNSZ0F(item critico)/Sharp Microelectronics; Manufacturer Part Number: PC817XNNSZ0F
footprint DIP-4
pins: 1 A "Anode", 2 K "Cathode", 3 E "Emitter", 4 C "Collector"

## IC PTH REG L7805CP
designator U?  value L7805CP  (hidden comment: IC PTH REG L7805CP)
REGULADOR 5V 1.5A; Manufacturer: ST Microelectronics; COD. CRISTOFOLI: EMP.00319; List: IC REG LDO 5V 1.5A TO220FP/L7805CP/STMicroelectronics; Manufacturer Part Number: L7805CP
footprint TO220
pins: 1 Vin, 2 GND, 3 Vout

## IC PTH REG LM7805ACT
designator U?  value LM7805ACT  (hidden comment: IC PTH REG LM7805ACT)
REGULADOR 5V 1A; Manufacturer: Fairchild; COD. CRISTOFOLI: EMP.00073; List: IC REG LDO 5V 1A TO220-3 / LM7805ACT / Fairchild; Manufacturer Part Number: LM7805ACT
pins: 1 Vin, 2 GND, 3 Vout

## IC PTH REG LM7812CV
designator U?  value LM7812CV  (hidden comment: IC PTH REG LM7812CV)
REGULADOR 12V 1A; COD. CRISTOFOLI: EMP.00030; List: IC REG LDO 12V 1A TO220-3 – LM7812CV; Manufacturer Part Number: LM7812CV
pins: 1 Vin, 2 GND, 3 Vout

## IC PTH REG LM7815CT
designator U?  value LM7815CT  (hidden comment: IC PTH REG LM7815CT)
REGULADOR 15V 1A; Manufacturer: ON; COD. CRISTOFOLI: EMP.00000; List: IC REG LDO 15V 1A TO220-3 / LM7815CT / ON; Voltage: 15V; Manufacturer Part Number: LM7815CT
pins: 1 Vin, 2 GND, 3 Vout

## IC PTH TNY278PG
designator U?  value TNY278PG
Manufacturer: Power Integrations; COD. CRISTOFOLI: EMP.00162; List: IC OFFLINE SWIT OVP OTP HV 8DIP/TNY278PG/Power Integration; Manufacturer Part Number: TNY278PG
pins: 1 EN/UV, 2 BP/M, 4 D, 5 S, 6 S, 7 S, 8 S

## IC PTH TOP254EG
designator U?, comment Manufacturer Part Number: TOP254EG  (hidden comment: TOP254)
IC OFFLINE SW PWM OCP OVP 7ESIP; Manufacturer: Power Integrations; Output Isolation: Isolated; Frequency Range: 66kHz ~ 132kHz; Voltage - Breakdown: 725V; Power (Watts): 43W; COD. CRISTOFOLI: EMP.00199; List: AC/DC Converters Int Off-Line Switchr 43W/62W/TOP254EN// (TOP264EG)Power Integrations; Supplier 1: Digi-Key; Supplier Part Number 1: 596-1268-5-ND; RoHS: RoHS Compliant; Category: Integrated Circuits (ICs); Stock 1: 31; Pricing 1: 1=1.76, 10=1.59, 100=1.278, 250=1.136, 500=0.994, 1000=0.852 (USD); Packaging: Tube; Voltage - Input: -; Voltage - Output: -; Operating Temperature: -40°C ~ 150°C; Package / Case: 7-SIP, 6 Leads, Exposed Pad, Formed Leads; Supplier Device Package: eSIP-7C; ComponentLink1URL: http://www.power.com/sites/default/files/product-docs/topjx_family_datasheet.pdf; ComponentLink1Description: http://www.power.com/sites/default/files/product-docs/topjx_family_datasheet.pdf
footprint TOP2XX
pins: 1 V, 2 X, 3 C, 4 F, 5 S, 7 D

## IC PTH TOP256EN
designator U?, comment Manufacturer Part Number: TOP256EN  (hidden comment: TOP254//TOP264)
IC OFFLINE SW PWM OCP OVP 7ESIP; Manufacturer: Power Integrations; Output Isolation: Isolated; Frequency Range: 66kHz ~ 132kHz; Voltage - Breakdown: 725V; Power (Watts): 43W; COD. CRISTOFOLI: EMP.00093; List: IC OFFLINE SWIT PROG OVP 7CESIP/TOP256EN/IC OFFLINE SWIT PROG OVP 7CESIP; Supplier 1: Digi-Key; Supplier Part Number 1: 596-1268-5-ND; RoHS: RoHS Compliant; Category: Integrated Circuits (ICs); Stock 1: 31; Pricing 1: 1=1.76, 10=1.59, 100=1.278, 250=1.136, 500=0.994, 1000=0.852 (USD); Packaging: Tube; Voltage - Input: -; Voltage - Output: -; Operating Temperature: -40°C ~ 150°C; Package / Case: 7-SIP, 6 Leads, Exposed Pad, Formed Leads; Supplier Device Package: eSIP-7C; ComponentLink1URL: http://www.power.com/sites/default/files/product-docs/topjx_family_datasheet.pdf; ComponentLink1Description: http://www.power.com/sites/default/files/product-docs/topjx_family_datasheet.pdf
footprint TOP2XX
pins: 1 V, 2 X, 3 C, 4 F, 5 S, 7 D

## IC PTH TOP264EG
designator U?  Manufacturer Part Number: TOP264EG
IC OFFLINE SW PWM OCP OVP 7ESIP; Manufacturer: Power Integrations; Output Isolation: Isolated; Frequency Range: 66kHz ~ 132kHz; Voltage - Breakdown: 725V; Power (Watts): 43W; COD. CRISTOFOLI: EMP.00227; List: IC OFFLINE SW PWM OCP OVP 7ESIP/TOP264EG/Power Integrations; Supplier 1: Digi-Key; Supplier Part Number 1: 596-1268-5-ND; RoHS: RoHS Compliant; Category: Integrated Circuits (ICs); Stock 1: 31; Pricing 1: 1=1.76, 10=1.59, 100=1.278, 250=1.136, 500=0.994, 1000=0.852 (USD); Packaging: Tube; Voltage - Input: -; Voltage - Output: -; Operating Temperature: -40°C ~ 150°C; Package / Case: 7-SIP, 6 Leads, Exposed Pad, Formed Leads; Supplier Device Package: eSIP-7C; ComponentLink1URL: http://www.power.com/sites/default/files/product-docs/topjx_family_datasheet.pdf; ComponentLink1Description: http://www.power.com/sites/default/files/product-docs/topjx_family_datasheet.pdf
footprint TOP2XX
pins: 1 V, 2 X, 3 C, 4 F, 5 S, 7 D

## IC PTH TOP269EG
designator U?  Manufacturer Part Number: TOP269EG
IC OFFLINE SW PWM OCP OVP 7ESIP; Manufacturer: Power Integrations; Frequency Range: 66kHz ~ 132kHz; Voltage - Breakdown: 725V; COD. CRISTOFOLI: EMP.00225; List: IC OFFLINE SW PWM OCP OVP 7ESIP/ TOP269EG / POWER INTEGRATIONS; Supplier 1: Digi-Key; Supplier Part Number 1: 596-1268-5-ND; Category: Integrated Circuits (ICs); Stock 1: 31; Voltage - Input: -; Voltage - Output: -; Operating Temperature: -40°C ~ 150°C; Supplier Device Package: eSIP-7C; ComponentLink1URL: http://www.power.com/sites/default/files/product-docs/topjx_family_datasheet.pdf; ComponentLink1Description: http://www.power.com/sites/default/files/product-docs/topjx_family_datasheet.pdf
footprint TOP2XX
pins: 1 V, 2 X, 3 C, 4 F, 5 S, 7 D

## IC PTH VO3120
designator U
2.5A Gate Driver Optical Coupling 5300Vrms 1 Channel 8-DIP; MF: Vishay Semiconductor; MP: VO3120; COD. CRISTOFOLI: EMP.00452; List: OPTOCOUPLERS IGBT MOSFET / VO3120 / FOD3125S; Package: DIP-8 Vishay Semiconductor; Digi-Key_Purchase_URL: https://www.digikey.com.au/product-detail/en/vishay-semiconductor-opto-division/VO3120/VO3120-ND/2096252?utm_source=snapeda&utm_medium=aggregator&utm_campaign=symbol; Value: *; SnapEDA_Link: https://www.snapeda.com/parts/VO3120/Vishay%20Semiconductor%20Opto%20Division/view-part/374636/?ref=snap; Digi-Key_Part_Number: VO3120-ND
footprint DIP8
pins: 2 A, 3 C, 5 VEE (power), 6 VO1, 7 VO2, 8 VCC (power)

## IC SMD 4N25S-TA1
designator U?  value 4N25S-TA1  (hidden comment: IC SMD 4N25S-TA1)
OPTOACOPLADOR; Manufacturer: Lite-On Inc; COD. CRISTOFOLI: EMP.00266; List: OPTOISO 2.5KV TRANS W/BASE 6SMD/4N25S-TA1/Lite-On Inc/ITEM CRITICO; Manufacturer Part Number: 4N25S-TA1
pins: 1 A "Anode", 2 K "Cathode", 4 E "Emitter", 5 C "Collector", 6 B "Base"

## IC SMD 6N137
designator U?  (value not drawn)
OPTOACOPLADOR; Manufacturer: Fairchild; Manufacturer Part Number: FOD817CS; COD. CRISTOFOLI: EMP.00075; List: OPTOCOUPLER TRANS 5KVRMS 4SMD / FOD817CS / Fairchild/CRITICO
pins: 1 NC "Anode", 2 A "Cathode", 3 K "Cathode", 4 NC "Cathode", 5 NC "Cathode", 6 NC "Cathode", 7 NC "Cathode", 8 NC "Cathode"

## IC SMD 6N137S
designator U?  value 6N137S  (hidden comment: IC SMD 6N137S)
OPTOACOPLADOR HIGH SPEED; Manufacturer: LITE ON; COD. CRISTOFOLI: EMP.00000; List: OPTOCOUPLER  LOGIC GATE 6N137S LITE ON; Manufacturer Part Number: 6N137S
pins: 1 NC, 2 A, 3 K, 4 NC, 5 GND, 6 VO, 7 VEE, 8 VCC
text: ANODE; CATHODE

## IC SMD 24LC256-I/SN
designator U?
256Kbit, 400kHz, 2.5V, I2C Serial EEPROM, 8-Pin SOIC 150mil, Industrial Temperature; List: IC EEPROM 256KBIT 400KHZ 8SOIC/24LC256-I/SN/Microchip; COD. CRISTOFOLI: EMP.00137; Published: 29-Jan-2009; DatasheetVersion: revP, Oct-2007; PackageVersion: revBB, Aug-2009; PackageReference: SOIC-SN8; Publisher: Altium Limited; PackageDescription: 8-Lead Plastic Small Outline (SN) - Narrow, 3.90mm Body [SOIC]; Supplier 1: Digi-Key; Supplier Part Number 1: 24LC256-I/SN-ND; Supplier 2: Farnell; Supplier Part Number 2: 9757996; Supplier 3: Farnell; Supplier Part Number 3: 1660005; ComponentLink1Description: Datasheet; ComponentLink1URL: http://ww1.microchip.com/downloads/en/DeviceDoc/21203P.pdf; ComponentLink2Description: Packaging Specification; ComponentLink2URL: http://www.microchip.com/stellent/groups/techpub_sg/documents/packagingspec/en012702.pdf; ComponentLink3Description: Microchip.com Home; ComponentLink3URL: http://www.microchip.com/
footprint SOIC-SN8_N (SOIC, 8-Leads, Body 4.9x3.8mm, Pitch 1.27mm, IPC Medium Density)
footprint SOIC-SN8_L (SOIC, 8-Leads, Body 4.9x3.8mm, Pitch 1.27mm, IPC High Density)
footprint SOIC-SN8_M (SOIC, 8-Leads, Body 4.9x3.8mm, Pitch 1.27mm, IPC Low Density)
pins: 1 A0 (in), 2 A1 (in), 3 A2 (in), 4 VSS (power), 5 SDA (io), 6 SCL (in), 7 WP (in), 8 VCC (power)

## IC SMD 54AC04
designator *
pins: 1, 2, 3, 4, 5, 6, 7 GND, 8, 9, 10, 11, 12, 13, 14 VDD

## IC SMD ADS1014IRUGT
designator U?  (value not drawn)
footprint 10-X2QFN
pins: 1 ADDR (in), 2 N/C (oc), 3 GND (power), 4 AIN0 (in), 5 AIN1 (in), 6 AIN2 (in), 7 AIN3 (in), 8 VDD (power), 9 SDA (io), 10 SCL (in)

## IC SMD AL8861Y-13
designator U?  Manufacturer Part Number: AL8861Y-13
LED Lighting Drivers LED MV Int Switch; List: IC DRIVER LIGHT SOT89-5 / AL8861Y-13 / DIODES; COD. CRISTOFOLI: EMP.00000; PackageReference: SOT89-5
pins: 1 LX, 2 GND (power), 3 VSET (power), 4 ISENS, 5 VIN (power)

## IC SMD CONV BUCK LT3971EMSE-5_1
designator U?, comment value LT3971EMSE-5  (hidden comment: IC SMD CONV BUCK LT3971EMSE-5)
CONVERSOR BUCK 5V 1.2A; Manufacturer: Linear Technology; Manufacturer Part Number: LT3971EMSE-5#PBF; COD. CRISTOFOLI: EMP.00234; List: IC REG BUCK 5V 1.2A 10-MSOP/LT3971EMSE-5#PBF/Linear Technology
pins: 1 Vin, 2 GND, 3 Vout

## IC SMD CONV INV LT1931ES5_1
designator U?, comment value LT1931ES5  (hidden comment: IC SMD CONV INV LT1931ES5)
CONVERSOR INVERSOR DE TENSÃO; Manufacturer: Linear Technology; Manufacturer Part Number: LT1931ES5#TRMPBF; COD. CRISTOFOLI: EMP.00214; List: IC REG INV 1A TSOT23-5/LT1931ES5#TRMPBF/Linear Technology
pins: 1 Vin, 2 GND, 3 Vout

## IC SMD DS1307Z
designator U?
64 X 8 Serial Real-Time Clock; List: CI Clock de tempo real 64x8 Serial I2C RTC/DS1307Z+/Maxim Integrated; COD. CRISTOFOLI: EMP.00135; Published: 13-Oct-2000; LatestRevisionDate: 13-Apr-2006; LatestRevisionNote: IPC-7351 Footprint Added.; DatasheetVersion: 10-Aug-1999; PackageVersion: 1999; PackageReference: SOIC8N; Publisher: Altium Limited; PackageDescription: 8-Pin Small Outline Integrated Circuit 1.27 mm Pitch; Code_IPC: SOIC127P600-8; ComponentLink1Description: Manufacturer Link; ComponentLink1URL: http://www.maxim-ic.com/; ComponentLink2Description: Datasheet; ComponentLink2URL: http://pdfserv.maxim-ic.com/en/ds/DS1307.pdf; ComponentLink3Description: Discontinuation Notice; ComponentLink3URL: http://www.maxim-ic.com/qa/pdfs/non-obsolescence-letter.pdf
footprint SOIC8N_N (SOIC, 8-Leads, Body 4.9x3.9mm, Pitch 1.27mm, IPC Medium Density)
footprint SOIC8N_L (SOIC, 8-Leads, Body 4.9x3.9mm, Pitch 1.27mm, IPC High Density)
footprint SOIC8N_M (SOIC, 8-Leads, Body 4.9x3.9mm, Pitch 1.27mm, IPC Low Density)
pins: 1 X1 (in), 2 X2 (in), 3 VBAT (power), 4 GND (power), 5 SDA (io), 6 SCL (in), 7 SQW/OUT (out), 8 VCC (power)

## IC SMD ESP32-S3-WROOM-1-N4R2
designator U?
Bluetooth, WiFi 802.11b/g/n, Bluetooth v5.0 Transceiver Module 2.4GHz PCB Trace Surface Mount; MF: Espressif Systems; MP: ESP32-S3-WROOM-1-N4R2; List: IC SMD ESP32-S3-WROOM-1-N4R2; COD. CRISTOFOLI: EMP.50161; Package: None; Purchase-URL: https://pricing.snapeda.com/search/part/ESP32-S3-WROOM-1-N4R2/?ref=eda; Price: None; Availability: In Stock; Check_prices: https://www.snapeda.com/parts/ESP32-S3-WROOM-1-N4R2/Espressif+Systems/view-part/?ref=eda; SnapEDA_Link: https://www.snapeda.com/parts/ESP32-S3-WROOM-1-N4R2/Espressif+Systems/view-part/?ref=snap; Value: *
footprint XCVR_ESP32-S3-WROOM-1-N4R2
pins: 1 GND (power), 2 3V3 (power), 3 EN (in), 4 IO4 (io), 5 IO5 (io), 6 IO6 (io), 7 IO7 (io), 8 IO15 (io), 9 IO16 (io), 10 IO17 (io), 11 IO18 (io), 12 IO8 (io), 13 IO19 (io), 14 IO20 (io), 15 IO3 (io), 16 IO46 (io), 17 IO9 (io), 18 IO10 (io), 19 IO11 (io), 20 IO12 (io), 21 IO13 (io), 22 IO14 (io), 23 IO21 (io), 24 IO47 (io), 25 IO48 (io), 26 IO45 (io), 27 IO0 (io), 28 IO35 (io), 29 IO36 (io), 30 IO37 (io), 31 IO38 (io), 32 IO39 (io), 33 IO40 (io), 34 IO41 (io), 35 IO42 (io), 36 RXD0 (io), 37 TXD0 (io), 38 IO2 (io), 39 IO1 (io), 40 GND (power), 41_1 GND (power), 41_2 GND (power), 41_3 GND (power), 41_4 GND (power), 41_5 GND (power), 41_6 GND (power), 41_7 GND (power), 41_8 GND (power), 41_9 GND (power)

## IC SMD ESP32-WROOM-32
designator U?  List: IC SMD ESP32-WROOM-32
MP: ESP32-WROOM-32; COD. CRISTOFOLI: EMP.50048; Package: None; Value: *; Price: None; Availability: Unavailable
footprint ESP-WROOM-32
pins: 1 GND (power), 2 3V3 (power), 3 EN (in), 4 SENSOR_VP (in), 5 SENSOR_VN (in), 6 IO34 (in), 7 IO35 (in), 8 IO32 (io), 9 IO33 (io), 10 IO25 (io), 11 IO26 (io), 12 IO27 (io), 13 IO14 (io), 14 IO12 (io), 15 GND (power), 16 IO13 (io), 17 SHD/SD2 (io), 18 SWP/SD3 (io), 19 SCS/CMD (io), 20 SCK/CLK (io), 21 SDO/SD0 (io), 22 SDI/SD1 (io), 23 IO15 (io), 24 IO2 (io), 25 IO0 (io), 26 IO4 (io), 27 IO16 (io), 28 IO17 (io), 29 IO5 (io), 30 IO18 (io), 31 IO19 (io), 32 NC, 33 IO21 (io), 34 RXD0 (io), 35 TXD0 (io), 36 IO22 (io), 37 IO23 (io), 38 GND (power), 39 GND (power)

## IC SMD FOD817CS
designator U?  value FOD817CS  (hidden comment: IC SMD FOD817CS)
OPTOACOPLADOR; Manufacturer: Fairchild; COD. CRISTOFOLI: EMP.00075; List: OPTOCOUPLER TRANS 5KVRMS 4SMD / FOD817CS / Fairchild/CRITICO; Manufacturer Part Number: FOD817CS
pins: 1 A "Anode", 2 K "Cathode", 3 E "Emitter", 4 C "Collector"

## IC SMD L6599
designator U?, comment L6599ADTR
IC RESONANT CONVRTR CTRLR 16SOIC; Max Supply Current: 5mA; Fall Time: 30ns; Max Duty Cycle: 50%; Switching Frequency: 500kHz; Number of Outputs: 1; Operating Supply Current: 3.5mA; Rise Time: 60ns; Max Supply Voltage: 16V; Lead Free: Lead Free; Mount: Surface Mount; Contact Plating: Tin; Case/Package: SOIC; Min Operating Temperature: 0°C; Packaging: Tape and Reel; Series: L6599A; Max Frequency: 500kHz; Radiation Hardening: No; Package Quantity: 2500; RoHS Compliant: Yes; Number of Pins: 16; Max Operating Temperature: 150°C
footprint SO16N
pins: 1 Css, 2 DELAY, 3 CF, 4 RFmin, 5 STBY, 6 ISEN (in), 7 LINE (in), 8 DIS, 9 PFC STOP, 10 GND (power), 11 LVG (out), 12 Vcc (power), 13 NC, 14 OUT (out), 15 HVG (out), 16 VBOOT

## IC SMD L6599AD
designator U?
Ressonant converter controller
footprint SO16N
pins: 1 Css, 2 DELAY, 3 CF, 4 RFmin, 5 STBY, 6 ISEN (in), 7 LINE (in), 8 DIS, 9 PFC STOP, 10 GND (power), 11 LVG (out), 12 Vcc (power), 13 NC, 14 OUT (out), 15 HVG (out), 16 VBOOT

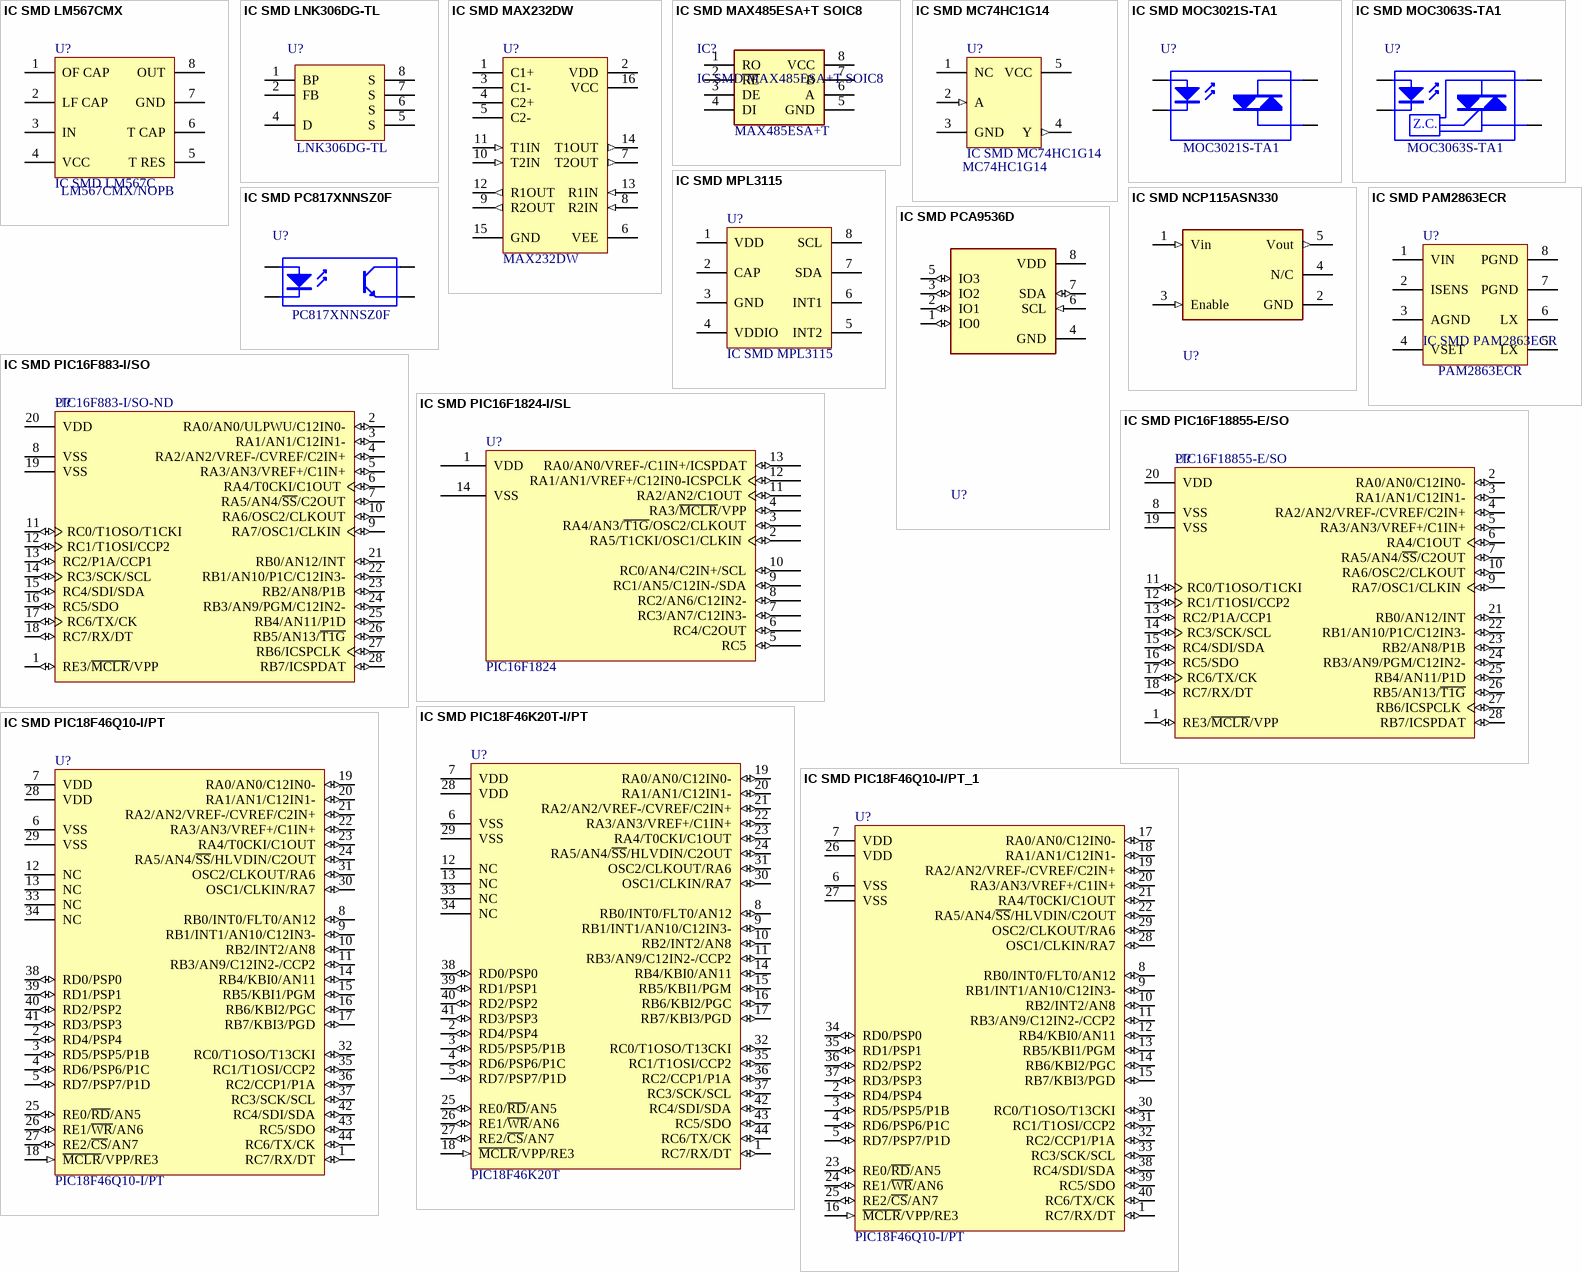
[diagram p7: symbols IC SMD LM567CMX to IC SMD PIC18F46Q10-I/PT_1]

## IC SMD LM567CMX
designator U?, comment IC SMD LM567C  Manufacturer Part Number: LM567CMX/NOPB
Communication ICs - Various Tone decoder; EMP: EMP.00000; list: IC TONE DECODER / LM567CMX/NOPB / Texas Instruments
pins: 1 OF CAP, 2 LF CAP, 3 IN, 4 VCC, 5 T RES, 6 T CAP, 7 GND, 8 OUT

## IC SMD LNK306DG-TL
designator U?  value LNK306DG-TL  (hidden comment: IC SMD LNK306DG-TL)
IC OFFLINE SWIT OCP 8SOP/LNK306DG-TL; Manufacturer: Power Integrations; COD. CRISTOFOLI: EMP.00396; List: IC OFFLINE SWIT OCP 8SOP/LNK306DG-TL/Power Integrations; Manufacturer Part Number: LNK306DG-TL
pins: 1 BP, 2 FB, 4 D, 5 S, 6 S, 7 S, 8 S

## IC SMD MAX232DW
designator U?, comment MAX232DW
Multi-Channel RS-232 Driver/Receiver; List: IC DUAL EIA-232 DRVR/RCVR 16SOIC/MAX232DW/Texas Instruments; COD. CRISTOFOLI: EMP.00181; Published: 16-Jan-2001; LatestRevisionDate: 13-Apr-2006; LatestRevisionNote: IPC-7351 Footprint Added.; Publisher: Altium Limited; PackageDescription: 16-Pin Small Outline Integrated Circuit 1.27 mm Pitch; ComponentLink1Description: Manufacturer Link; ComponentLink1URL: http://www.maxim-ic.com/; ComponentLink2Description: Datasheet; ComponentLink2URL: http://pdfserv.maxim-ic.com/en/ds/MAX220-MAX249.pdf; PackageReference: NSO16
footprint NSO16_N (SOIC, 16-Leads, Body 9.9x3.9mm, Pitch 1.27mm, IPC Medium Density)
footprint NSO16_L (SOIC, 16-Leads, Body 9.9x3.9mm, Pitch 1.27mm, IPC High Density)
footprint NSO16_M (SOIC, 16-Leads, Body 9.9x3.9mm, Pitch 1.27mm, IPC Low Density)
3D model NSO16 (16-Pin Small Outline Integrated Circuit 1.27 mm Pitch)
pins: 1 C1+, 2 VDD (power), 3 C1-, 4 C2+, 5 C2-, 6 VEE (power), 7 T2OUT (out), 8 R2IN (in), 9 R2OUT (out), 10 T2IN (in), 11 T1IN (in), 12 R1OUT (out), 13 R1IN (in), 14 T1OUT (out), 15 GND (power), 16 VCC (power)

## IC SMD MAX485ESA+T SOIC8
designator IC?  List: MAX485ESA+T
Integrated Circuit; Manufacturer_Name: Maxim Integrated; COD. CRISTOFOLI: EMP.50140; Datasheet Link: https://datasheets.maximintegrated.com/en/ds/MAX1487-MAX491.pdf; Height: 1.75mm; Manufacturer_Part_Number: MAX485ESA+T; Mouser Part Number: 700-MAX485ESAT; Mouser Price/Stock: https://www.mouser.co.uk/ProductDetail/Maxim-Integrated/MAX485ESA%2bT?qs=LHmEVA8xxfYXmvxEk%252BFtEg%3D%3D; Arrow Part Number: MAX485ESA+T; Arrow Price/Stock: https://www.arrow.com/en/products/max485esat/maxim-integrated?region=nac
footprint SOIC8
pins: 1 RO, 2 ~{RE}, 3 DE, 4 DI, 5 GND, 6 A, 7 B, 8 VCC

## IC SMD MC74HC1G14
designator U?  Manufacturer Part Number: MC74HC1G14
Inverters Single Inverter SchmittTrigger Input; List: IC INVERTER SCHIMITTRIGGER SOT-23-5 / MC74HC1G14DBVT1G / ON; COD. CRISTOFOLI: EMP.00000; PackageReference: DBV005; PackageDescription: 5-Pin SOT-23 Package 0.95 mm Pitch, 2.8 mm Lead Span
pins: 1 NC, 2 A (in), 3 GND (power), 4 Y (out), 5 VCC (power)

## IC SMD MOC3021S-TA1
designator U?  value MOC3021S-TA1  (hidden comment: IC SMD MOC3021S-TA1)
OPTOACOPLADOR TRIAC; Manufacturer: Lite-On Inc; COD. CRISTOFOLI: EMP.00077; List: OPTOCOUPLER TRIAC OUT 400V 6SMD / MOC3021S-TA1 / Lite-On Inc; Manufacturer Part Number: MOC3021S-TA1
pins: 1 A, 2 K, 4 A/K, 6 A/K

## IC SMD MOC3063S-TA1
designator U?  value MOC3063S-TA1  (hidden comment: IC SMD MOC3063S-TA1)
OPTOACOPLADOR TRIAC; Manufacturer: Lite-On Inc; COD. CRISTOFOLI: EMP.00076; List: OPTOCOUPLER TRIAC 600V 6SMD ZC / MOC3063S-TA1 / Lite-On Inc; Manufacturer Part Number: MOC3063S-TA1
pins: 1 A, 2 K, 4 A/K, 6 A/K
text: Z.C.

## IC SMD MPL3115
designator U?
IC ALTIMETER I2C VERSION 8LGA; EMP: EMP.00160; list: IC ALTIMETER I2C VERSION 8LGA/MPL3115A2/Freescale
footprint MPL3115A2
pins: 1 VDD, 2 CAP, 3 GND, 4 VDDIO, 5 INT2, 6 INT1, 7 SDA, 8 SCL

## IC SMD NCP115ASN330
designator U?, comment NCP115ASN330  (value not drawn)
IC REG LINEAR 3.3V 300MA 5TSOP; Manufacturer: ON Semiconductor; Voltage - Input (Max): 5.5V; COD. CRISTOFOLI: EMP.00432; Temperature: -40°C to +85°C; Package: SOT-23-5 Thin, TSOT-23-5; Supplier 2: Mouser; Supplier 1: Digi-Key; RoHS: TRUE; Temperature Range High: +85°C; Voltage - Output (Min/Fixed): 3.3V; Digikey Part Number: NCP115ASN330T2GOSTR-ND; Temperature Range Low: -40°C; Part Number: NCP115ASN330; list: NCP115ASN330
footprint TSOP-5
pins: 1 Vin (in), 2 GND (power), 3 Enable (in), 4 N/C, 5 Vout (out)

## IC SMD PAM2863ECR
designator U?  Manufacturer Part Number: PAM2863ECR
LED Lighting Drivers 2A LED DVR W/ INTERNAL SWITCH; List: IC DRIVER LIGHT SOP-8 / PAM2863ECR / DIODES; COD. CRISTOFOLI: EMP.00000; PackageReference: SOP-8
pins: 1 VIN (power), 2 ISENS, 3 AGND (power), 4 VSET, 5 LX (power), 6 LX (power), 7 PGND (power), 8 PGND (power)

## IC SMD PC817XNNSZ0F
designator U?  value PC817XNNSZ0F  (hidden comment: IC SMD PC817XNNSZ0F)
OPTOACOPLADOR; Manufacturer: Sharp Microelectronics; COD. CRISTOFOLI: EMP.50147; List: IC SMD PC817XNNSZ0F PDIP4; Manufacturer Part Number: PC817XNNSZ0F
footprint FOD817CS
pins: 1 A "Anode", 2 K "Cathode", 3 E "Emitter", 4 C "Collector"

## IC SMD PCA9536D
designator U?  (value not drawn)
Expansor de portas I2C
footprint SO-8_L (SOIC, 8-Leads, Body 4.9x3.9mm, Pitch 1.27mm, IPC High Density)
pins: 1 IO0 (io), 2 IO1 (io), 3 IO2 (io), 4 GND (power), 5 IO3 (io), 6 SCL (in), 7 SDA (io), 8 VDD (power)

## IC SMD PIC16F883-I/SO
designator U?  Supplier Part Number 1: PIC16F883-I/SO-ND  (hidden comment: IC SMD PIC16F883-I/SO)
Flash-Based, 8-Bit CMOS Microcontroller with nanoWatt Technology, 4K (x14-Bit words) Program Memory, 512 Bytes Data Memory, 24 I/O pins, 28-Pin SOIC, Standard VDD Range, Industrial Temperature; COD. CRISTOFOLI: EMP.00018; List: MICROCONTROLADORES DE 8 BITS - MCU 7KB FLASH 256 RAM 25 I/O - PIC16F883-I/SO – MICROCHIP PIC16F883-I/SO; Published: 29-Jan-2009; LatestRevisionDate: 02-Dec-2009; LatestRevisionNote: Updated datasheet to version revF, Apr-2009.; DatasheetVersion: revF, Apr-2009; PackageVersion: revBB, Aug-2009; PackageReference: SOIC-SO28; Publisher: Altium Limited; PackageDescription: 28-Lead Plastic Small Outline (SO) - Wide 7.50mm Body [SOIC]; Supplier 1: Digi-Key; Supplier 2: Farnell; Supplier Part Number 2: 1439532; ComponentLink1URL: http://ww1.microchip.com/downloads/en/DeviceDoc/41291F.pdf; ComponentLink2Description: Packaging Specification; ComponentLink2URL: http://www.microchip.com/stellent/groups/techpub_sg/documents/packagingspec/en012702.pdf; ComponentLink3Description: Microchip.com Home; ComponentLink3URL: http://www.microchip.com/
footprint SOIC-SO28_N (SOIC, 28-Leads, Body 17.9x7.5mm, Pitch 1.27mm, IPC Medium Density)
footprint SOIC-SO28_L (SOIC, 28-Leads, Body 17.9x7.5mm, Pitch 1.27mm, IPC High Density)
footprint SOIC-SO28_M (SOIC, 28-Leads, Body 17.9x7.5mm, Pitch 1.27mm, IPC Low Density)
pins: 1 RE3/~{MCLR}/VPP (io), 2 RA0/AN0/ULPWU/C12IN0- (io), 3 RA1/AN1/C12IN1- (io), 4 RA2/AN2/VREF-/CVREF/C2IN+ (io), 5 RA3/AN3/VREF+/C1IN+ (io), 6 RA4/T0CKI/C1OUT (io), 7 RA5/AN4/~{SS}/C2OUT (io), 8 VSS (power), 9 RA7/OSC1/CLKIN (io), 10 RA6/OSC2/CLKOUT (io), 11 RC0/T1OSO/T1CKI (io), 12 RC1/T1OSI/CCP2 (io), 13 RC2/P1A/CCP1 (io), 14 RC3/SCK/SCL (io), 15 RC4/SDI/SDA (io), 16 RC5/SDO (io), 17 RC6/TX/CK (io), 18 RC7/RX/DT (io), 19 VSS (power), 20 VDD (power), 21 RB0/AN12/INT (io), 22 RB1/AN10/P1C/C12IN3- (io), 23 RB2/AN8/P1B (io), 24 RB3/AN9/PGM/C12IN2- (io), 25 RB4/AN11/P1D (io), 26 RB5/AN13/~{T1G} (io), 27 RB6/ICSPCLK (io), 28 RB7/ICSPDAT (io)